# EAGLE library part S9B-XASK-1 (library jst-xa)
Wire-to-Board 2.5mm pitch top mount connector Source: http://www.jst-mfg.com/product/pdf/jpn/XA1.pdf http://www.jst-mfg.com/product/detail.php?series=272
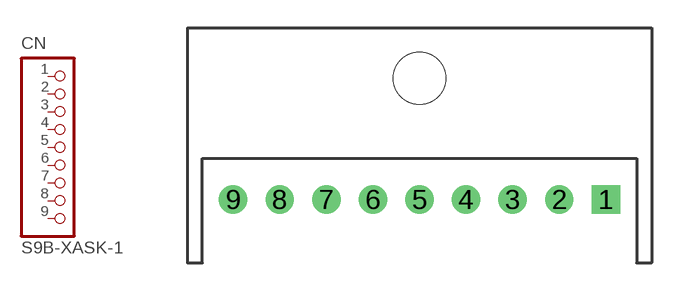
[diagram p15: symbol with the pads of S9B-XASK-1; footprint S9B-XASK-1]

Designator prefix CN

## S9B-XASK-1  [S9B-XASK-1]
1  1  pas
2  2  pas
3  3  pas
4  4  pas
5  5  pas
6  6  pas
7  7  pas
8  8  pas
9  9  pas

## Footprint S9B-XASK-1 (pad centres in mm)
drill 1.016 square: 1 10,0
drill 1.016: 2 7.5,0; 3 5,0; 4 2.5,0; 5 0,0; 6 -2.5,0; 7 -5,0; 8 -7.5,0; 9 -10,0
hole 2.8 at 0,6.5